# Altium footprint library PCB - CONNECTOR - SAMTEC CLP-145-02-X-D.PCBLIB: 1 footprints
Each footprint in its own frame and in the unit in brackets; x right, y up, seen from the top. Pads: shape width x height; smd on the part's side, far side on the other; paste and mask are expansions set on the pad; w line width, h text height; cw(c..) or ccw(c..) is an arc to the next point about the centre after c.
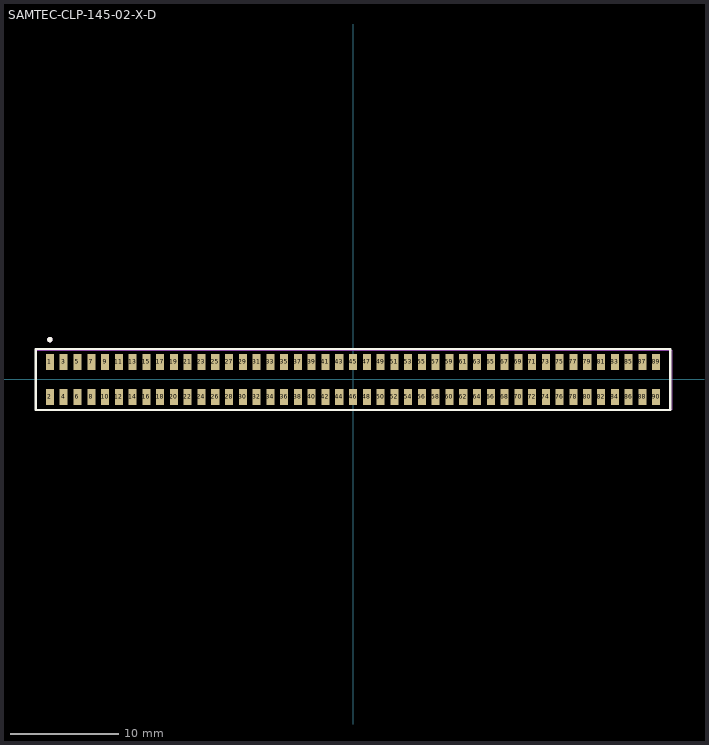
[diagram p0: the footprint, top view; thin cyan lines are the x and y axes]

## SAMTEC-CLP-145-02-X-D [mm]
pads (90):
  rect 0.74x1.47 smd mask+0: 1(-27.94,1.613) 2(-27.94,-1.613) 3(-26.67,1.613) 4(-26.67,-1.613) 5(-25.4,1.613) 6(-25.4,-1.613) 7(-24.13,1.613) 8(-24.13,-1.613) 9(-22.86,1.613) 10(-22.86,-1.613) 11(-21.59,1.613) 12(-21.59,-1.613) 13(-20.32,1.613) 14(-20.32,-1.613) 15(-19.05,1.613) 16(-19.05,-1.613) 17(-17.78,1.613) 18(-17.78,-1.613) 19(-16.51,1.613) 20(-16.51,-1.613) 21(-15.24,1.613) 22(-15.24,-1.613) 23(-13.97,1.613) 24(-13.97,-1.613) 25(-12.7,1.613) 26(-12.7,-1.613) 27(-11.43,1.613) 28(-11.43,-1.613) 29(-10.16,1.613) 30(-10.16,-1.613) 31(-8.89,1.613) 32(-8.89,-1.613) 33(-7.62,1.613) 34(-7.62,-1.613) 35(-6.35,1.613) 36(-6.35,-1.613) 37(-5.08,1.613) 38(-5.08,-1.613) 39(-3.81,1.613) 40(-3.81,-1.613) 41(-2.54,1.613) 42(-2.54,-1.613) 43(-1.27,1.613) 44(-1.27,-1.613) 45(0,1.613) 46(0,-1.613) 47(1.27,1.613) 48(1.27,-1.613) 49(2.54,1.613) 50(2.54,-1.613) 51(3.81,1.613) 52(3.81,-1.613) 53(5.08,1.613) 54(5.08,-1.613) 55(6.35,1.613) 56(6.35,-1.613) 57(7.62,1.613) 58(7.62,-1.613) 59(8.89,1.613) 60(8.89,-1.613) 61(10.16,1.613) 62(10.16,-1.613) 63(11.43,1.613) 64(11.43,-1.613) 65(12.7,1.613) 66(12.7,-1.613) 67(13.97,1.613) 68(13.97,-1.613) 69(15.24,1.613) 70(15.24,-1.613) 71(16.51,1.613) 72(16.51,-1.613) 73(17.78,1.613) 74(17.78,-1.613) 75(19.05,1.613) 76(19.05,-1.613) 77(20.32,1.613) 78(20.32,-1.613) 79(21.59,1.613) 80(21.59,-1.613) 81(22.86,1.613) 82(22.86,-1.613) 83(24.13,1.613) 84(24.13,-1.613) 85(25.4,1.613) 86(25.4,-1.613) 87(26.67,1.613) 88(26.67,-1.613) 89(27.94,1.613) 90(27.94,-1.613)
Top Overlay:
  circle w0.254: c-27.94,3.683 r0.127
  lines w0.2: -29.241,-2.799 -29.241,2.799 29.241,2.799 29.241,-2.799 -29.241,-2.799
Top Paste:
  drawing of 90 lines, arcs and shapes, not listed
Top Solder:
  drawing of 90 lines, arcs and shapes, not listed
Top Assembly:
  circle w0.254: c-27.94,3.683 r0.127
  lines w0.1: -29.241,-2.799 -29.241,2.799 29.241,2.799 29.241,-2.799 -29.241,-2.799
Top Courtyard:
  lines w0.102: -29.165,-2.749 -29.165,2.694 -29.147,2.712 29.419,2.712 29.419,-2.749 -29.165,-2.749
Top Designator:
  text ".Designator" at -29.337,5.842 h1
Top Value (Mech13):
  text ".Comment" at -29.337,4.699 h1
3D body "CLP-145-02-F-D-TR.stp": height 2.16, standoff -0.13, extent -28.791,-2.159 28.791,2.159